# EAGLE library part APDS-9008 (library librae)
Miniature Surface-Mount Ambient Light Photo Sensor
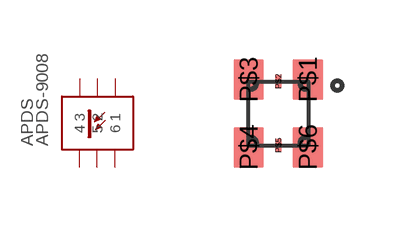
[diagram p0: symbol with the pads of MINIATURE-CHIPLED; footprint MINIATURE-CHIPLED]

Designator prefix APDS

## APDS-9008  [MINIATURE-CHIPLED]
P$1  1  pas
P$2  2  pas
P$3  3  pas
P$4  4  pas
P$5  5  pas
P$6  6  pas

## Footprint MINIATURE-CHIPLED (pad centres in mm)
smd 0.762 x 1.016: P$1 0.76,0.807; P$3 -0.721,0.807; P$4 -0.721,-0.893; P$6 0.76,-0.893
smd 0.152 x 0.305: P$2 0.02,0.757; P$5 0.02,-0.843